# EAGLE library part 1803316 (library Terminal-Blocks)
TERM BLOCK HDR 6POS 90DEG 3.81MM
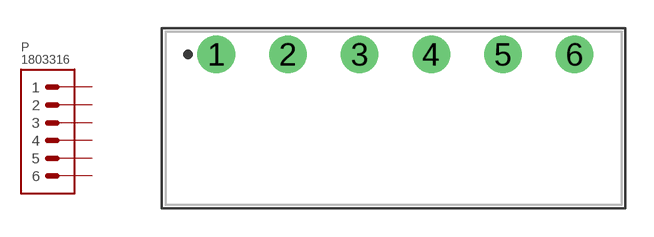
[diagram p2: symbol with the pads of 1803316; footprint 1803316]

Designator prefix P

## 1803316 (DATASHEET: https://media.digikey.com/pdf/Data%20Sheets/Phoenix%20Contact%20PDFs/1803316.pdf; DESCRIPTION: 6 Position Terminal Block Header, Male Pins, Shrouded (4 Side) 0.150" (3.81mm) 90°, Right Angle Through Hole; LINK: https://www.phoenixcontact.com/en-in/products/pcb-headers-mc-15-6-g-381-1803316; MANUFACTURER: Phoenix Contact; MPN: 1803316; PITCH: 3.81mm)  [1803316]
1  1
2  2
3  3
4  4
5  5
6  6

## Footprint 1803316 (pad centres in mm)
drill 1.2 pad 2: 1 0,0; 2 3.81,0; 3 7.62,0; 4 11.43,0; 5 15.24,0; 6 19.05,0